# Altium footprint library P822601.PcbLib: 1 footprints
Each footprint in its own frame and in the unit in brackets; x right, y up, seen from the top. Pads: shape width x height; smd on the part's side, far side on the other; paste and mask are expansions set on the pad; w line width, h text height; cw(c..) or ccw(c..) is an arc to the next point about the centre after c.
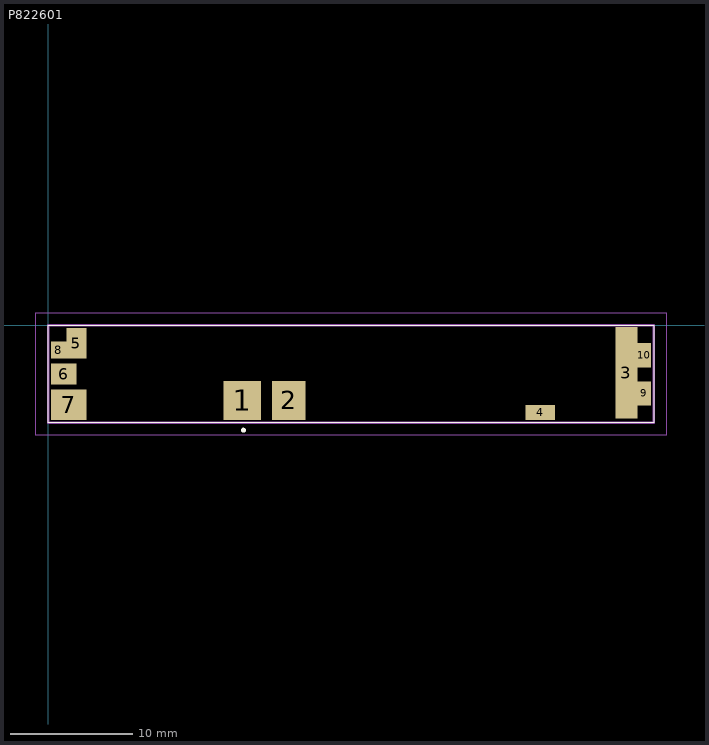
[diagram p0: the footprint, top view; thin cyan lines are the x and y axes]

## P822601 [mm]
pads (10):
  rect 3.1x3.2 smd: 1(15.9,-6.15)
  rect 2.73x3.2 smd: 2(19.715,-6.15)
  rect 1.8x7.5 smd: 3(47.35,-3.9)
  rect 2.4x1.2 smd: 4(40.3,-7.14)
  rect 1.65x2.5 smd: 5(2.325,-1.49)
  rect 2.1x1.7 smd: 6(1.3,-3.99)
  rect 2.9x2.5 smd: 7(1.7,-6.49)
  rect 1.25x1.4 smd: 8(0.875,-2.04)
  rect 1.1x1.95 smd: 9(48.8,-5.575)
  rect 1.1x2 smd: 10(48.8,-2.45)
Top Overlay:
  lines w0.1: 0,-7.99 49.6,-7.99 49.6,0.01 0,0.01 0,-7.99
  lines w0.2: 16,-8.69 cw(c16,-8.59) 16,-8.49 ; 16,-8.69 16,-8.69 ; 16,-8.69 ccw(c16,-8.59) 16,-8.49 ; 16,-8.49 16,-8.49
Mechanical 15:
  lines w0.2: 0,-7.99 49.6,-7.99 49.6,0 0,0 0,-7.99
Mechanical 20:
  lines w0.1: -1,-8.99 50.6,-8.99 50.6,1.01 -1,1.01 -1,-8.99